# EAGLE library part SI8902 (library Bauteile)
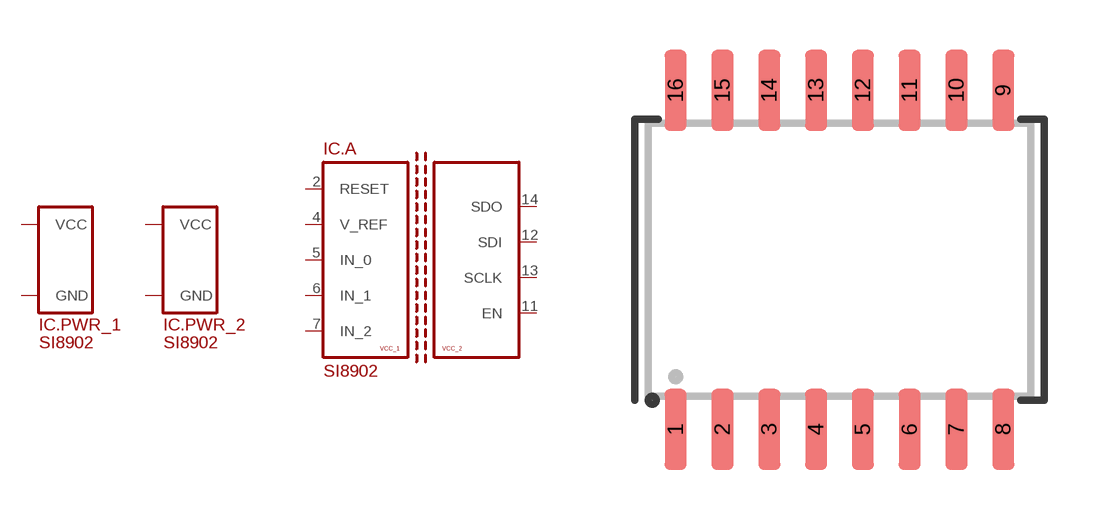
[diagram p22: symbol with the pads of SO16W; footprint SO16W]

Designator prefix IC; gates .PWR_1=SUPPLY_VCC/GND .PWR_2=SUPPLY_VCC/GND .A=SI8902

## SI8902  [SO16W]
1  .PWR_1:VCC
2  .A:RESET
4  .A:V_REF
5  .A:IN_0
6  .A:IN_1
7  .A:IN_2
8  .PWR_1:GND
9  .PWR_2:GND
10  .PWR_2:VCC
11  .A:EN
12  .A:SDI
13  .A:SCLK
14  .A:SDO
16  .PWR_2:VCC

## Footprint SO16W (pad centres in mm)
smd 0.6 x 2.2: 1 -4.445,-4.6; 2 -3.175,-4.6; 3 -1.905,-4.6; 4 -0.635,-4.6; 5 0.635,-4.6; 6 1.905,-4.6; 7 3.175,-4.6; 8 4.445,-4.6; 9 4.445,4.6; 10 3.175,4.6; 11 1.905,4.6; 12 0.635,4.6; 13 -0.635,4.6; 14 -1.905,4.6; 15 -3.175,4.6; 16 -4.445,4.6